# EAGLE library part SAMACSYS_PARTS_LAN7500I-ABZJ (library Local Compute Module)
Microchip Technology LAN7500I-ABZJ, USB to Ethernet Controller, 1000Mbit/s 1000BaseT, 100BaseTX, 10BaseT, USB, 3.3 V, Source: Datasheet <http://ww1.microchip.com/downloads/en/DeviceDoc/00001734B.pdf>
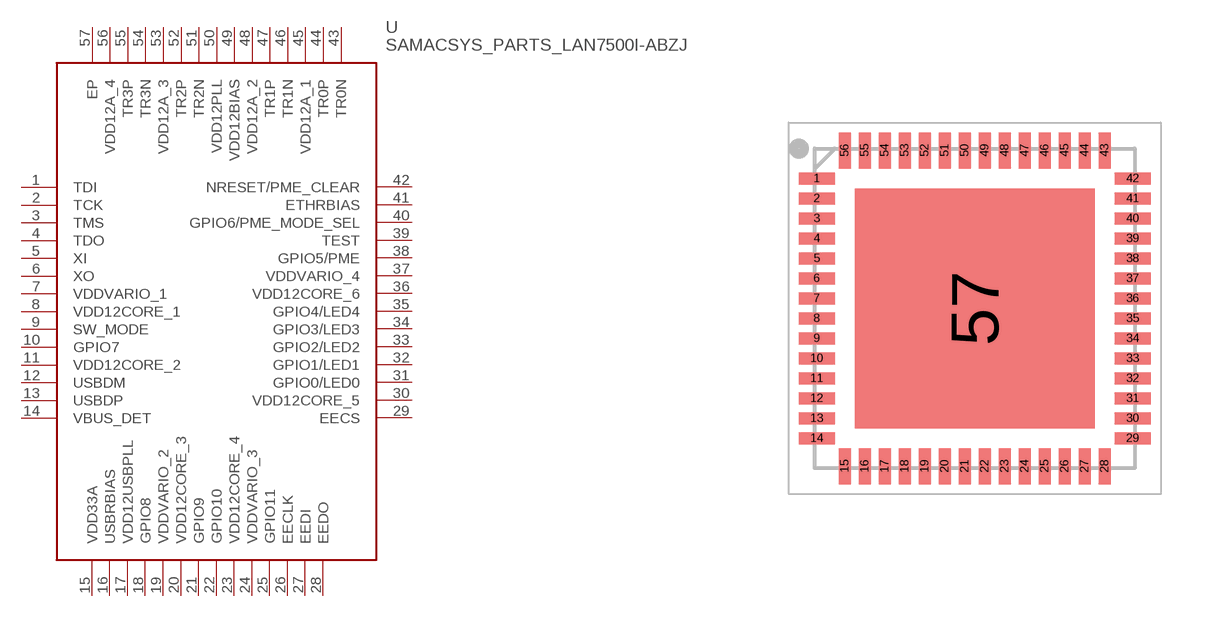
[diagram p19: symbol with the pads of SAMACSYS_PARTS_QFN50P800X800X100-57N; footprint SAMACSYS_PARTS_QFN50P800X800X100-57N]

Designator prefix U

## SAMACSYS_PARTS_LAN7500I-ABZJ (DIGIKEY: 638-1108-ND; MANUFACTURE: Microchip; MPN: LAN7500I-ABZJ)  [SAMACSYS_PARTS_QFN50P800X800X100-57N]
1  TDI
2  TCK
3  TMS
4  TDO
5  XI
6  XO
7  VDDVARIO_1
8  VDD12CORE_1
9  SW_MODE
10  GPIO7
11  VDD12CORE_2
12  USBDM
13  USBDP
14  VBUS_DET
15  VDD33A
16  USBRBIAS
17  VDD12USBPLL
18  GPIO8
19  VDDVARIO_2
20  VDD12CORE_3
21  GPIO9
22  GPIO10
23  VDD12CORE_4
24  VDDVARIO_3
25  GPIO11
26  EECLK
27  EEDI
28  EEDO
29  EECS
30  VDD12CORE_5
31  GPIO0/LED0
32  GPIO1/LED1
33  GPIO2/LED2
34  GPIO3/LED3
35  GPIO4/LED4
36  VDD12CORE_6
37  VDDVARIO_4
38  GPIO5/PME
39  TEST
40  GPIO6/PME_MODE_SEL
41  ETHRBIAS
42  NRESET/PME_CLEAR
43  TR0N
44  TR0P
45  VDD12A_1
46  TR1N
47  TR1P
48  VDD12A_2
49  VDD12BIAS
50  VDD12PLL
51  TR2N
52  TR2P
53  VDD12A_3
54  TR3N
55  TR3P
56  VDD12A_4
57  EP

## Footprint SAMACSYS_PARTS_QFN50P800X800X100-57N (pad centres in mm)
LAN7500/LAN7500I 56-QFN PACKAGE
smd 0.9 x 0.3: 1 -3.95,3.25; 2 -3.95,2.75; 3 -3.95,2.25; 4 -3.95,1.75; 5 -3.95,1.25; 6 -3.95,0.75; 7 -3.95,0.25; 8 -3.95,-0.25; 9 -3.95,-0.75; 10 -3.95,-1.25; 11 -3.95,-1.75; 12 -3.95,-2.25; 13 -3.95,-2.75; 14 -3.95,-3.25; 29 3.95,-3.25; 30 3.95,-2.75; 31 3.95,-2.25; 32 3.95,-1.75; 33 3.95,-1.25; 34 3.95,-0.75; 35 3.95,-0.25; 36 3.95,0.25; 37 3.95,0.75; 38 3.95,1.25; 39 3.95,1.75; 40 3.95,2.25; 41 3.95,2.75; 42 3.95,3.25
smd 0.3 x 0.9: 15 -3.25,-3.95; 16 -2.75,-3.95; 17 -2.25,-3.95; 18 -1.75,-3.95; 19 -1.25,-3.95; 20 -0.75,-3.95; 21 -0.25,-3.95; 22 0.25,-3.95; 23 0.75,-3.95; 24 1.25,-3.95; 25 1.75,-3.95; 26 2.25,-3.95; 27 2.75,-3.95; 28 3.25,-3.95; 43 3.25,3.95; 44 2.75,3.95; 45 2.25,3.95; 46 1.75,3.95; 47 1.25,3.95; 48 0.75,3.95; 49 0.25,3.95; 50 -0.25,3.95; 51 -0.75,3.95; 52 -1.25,3.95; 53 -1.75,3.95; 54 -2.25,3.95; 55 -2.75,3.95; 56 -3.25,3.95
smd 6 x 6: 57 0,0